# Altium schematic symbol library Battery holder.SchLib: 1 symbol
Pins are listed as number, name and electrical type; pins without a type are passive.

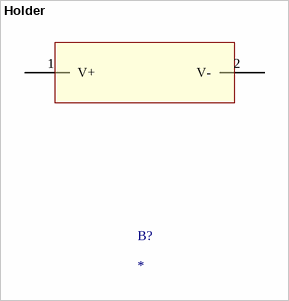
[diagram p0: symbol Holder]

## Holder
designator B?
footprint Battery holder
pins: 1 V+, 2 V-